# EAGLE library part 61400826021 (library Wurth_Connectors_WR-USB)
WR-COM USB 2.0 Type A Horizontal Dual Stacked Kind Properties Durability:1 500 Mating cycles Quality Class:1 500 Mating cycles Connector Type:USB Gender:Receptacle Type:Stacked Horizontal General Information Operating Temperature:-40up to +105 °C Compliance:RoHS Electrical Properties IR 1:1.5 A Working Voltage:30V (AC) Withstanding Voltage:750 V (AC) Contact Resistance:20 mΩ Material Properties Insulator Material:PBT Insulator Flammability Rating:UL94 V-0 Color:White Cover Material:Brass Cover Plating:Nickel Contact Material:Copper Alloy Contact Plating:Selective Gold Contact Type:Stamped Shielding Material:Brass Shielding Plating:Nickel <https://www.we-online.com/catalog/media/o32989v209%20Family_WR-COM_61400826021.jpg> Details see: https://www.we-online.com/catalog/en/COM_TYPE_A_HORIZONTAL_DUAL_STACKED/ Updated by Yingchun, Shan 2020-01-14 2020 (C) Würth Elektronik
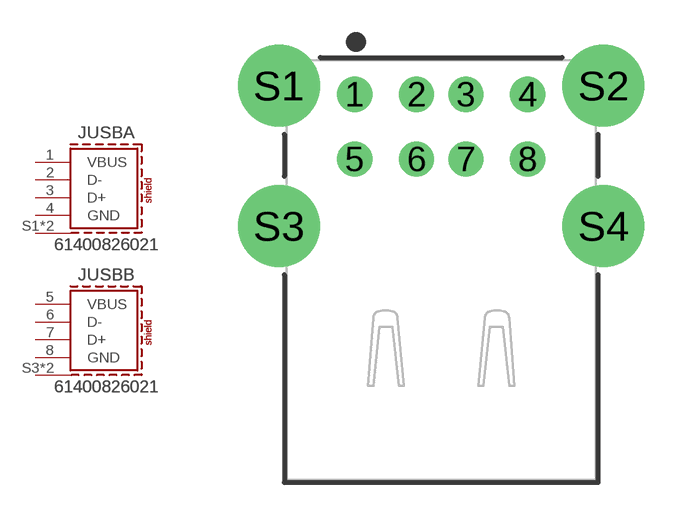
[diagram p22: symbol with the pads of 61400826021; footprint 61400826021]

Designator prefix J; gates USBA=USB2.0_TYPEA USBB=USB2.0_TYPEA

## 61400826021 (APPLICATION: USB 2.0; DATASHEET-URL: https://www.we-online.com/redexpert/spec/61400826021?ae; GERDER: Receptacle; INTERFACE-TYPE: Type A; IR: 1.5A; MOUNT: THT; PACKAGING: Tray; PART-NUMBER: 61400826021; PINS: 8; TYPE: Stacked Horizontal; VALUE: 61400826021; WORKING-VOLTAGE: 30V(AC))  [61400826021]
1  USBA:VBUS  pas
2  USBA:D-  pas
3  USBA:D+  pas
4  USBA:GND  pas
5  USBB:VBUS  pas
6  USBB:D-  pas
7  USBB:D+  pas
8  USBB:GND  pas
S1  USBA:SHIELD  pas
S2  USBA:SHIELD  pas
S3  USBB:SHIELD  pas
S4  USBB:SHIELD  pas

## Footprint 61400826021 (pad centres in mm)
WR-COM USB 2.0 Type A Horizontal Dual Stacked
drill 0.92: 1 -3.5,7.11; 2 -1,7.11; 3 1,7.11; 4 3.5,7.11; 5 -3.5,4.49; 6 -1,4.49; 7 1,4.49; 8 3.5,4.49
drill 2.3: S1 -6.57,7.46; S2 6.57,7.46; S3 -6.57,1.78; S4 6.57,1.78